# EAGLE library part NRF2401S (library NRF24L01)
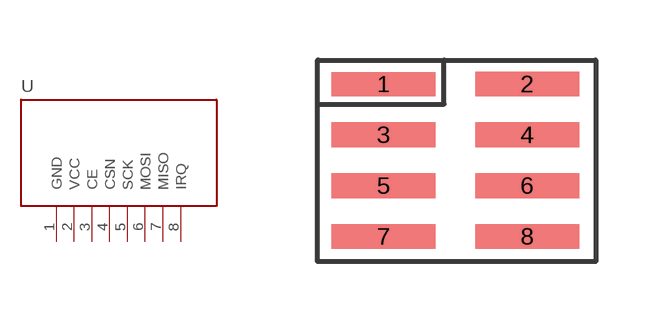
[diagram p1: symbol with the pads of CON2X4; footprint CON2X4]

Designator prefix -

## NRF2401S  [CON2X4]
1  GND
2  VCC
3  CE
4  CSN
5  SCK
6  MOSI
7  MISO
8  IRQ

## Footprint CON2X4 (pad centres in mm)
smd 2.6 x 0.6: 1 -1.8,0
smd 2.6 x 0.62: 2 1.8,0; 3 -1.8,-1.27; 4 1.8,-1.27; 5 -1.8,-2.54; 6 1.8,-2.54; 7 -1.8,-3.81; 8 1.8,-3.81